# EAGLE library part TLC5940 (library monome-inc)
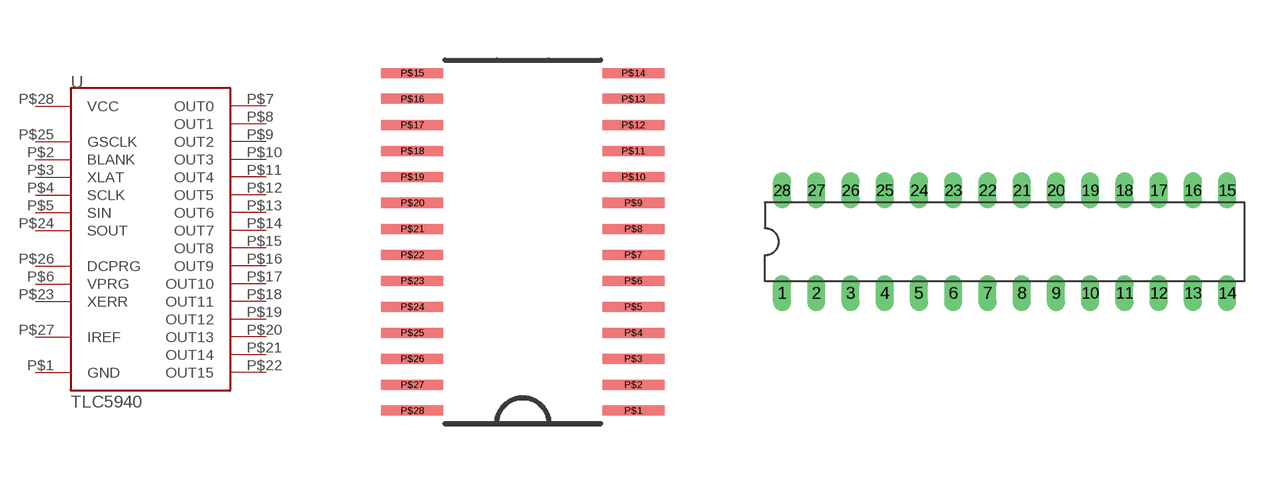
[diagram p2: symbol with the pads of PWP28; footprints PWP28, DIL28-3]

Designator prefix -

## TLC5940PWP28  [PWP28]
P$1  GND
P$2  BLANK
P$3  XLAT
P$4  SCLK
P$5  SIN
P$6  VPRG
P$7  OUT0
P$8  OUT1
P$9  OUT2
P$10  OUT3
P$11  OUT4
P$12  OUT5
P$13  OUT6
P$14  OUT7
P$15  OUT8
P$16  OUT9
P$17  OUT10
P$18  OUT11
P$19  OUT12
P$20  OUT13
P$21  OUT14
P$22  OUT15
P$23  XERR
P$24  SOUT
P$25  GSCLK
P$26  DCPRG
P$27  IREF
P$28  VCC

## TLC5940  [DIL28-3]
1  OUT1
2  OUT2
3  OUT3
4  OUT4
5  OUT5
6  OUT6
7  OUT7
8  OUT8
9  OUT9
10  OUT10
11  OUT11
12  OUT12
13  OUT13
14  OUT14
15  OUT15
16  XERR
17  SOUT
18  GSCLK
19  DCPRG
20  IREF
21  VCC
22  GND
23  BLANK
24  XLAT
25  SCLK
26  SIN
27  VPRG
28  OUT0

## Footprint PWP28 (pad centres in mm)
smd 1.55 x 0.25: P$1 2.763,-4.225; P$2 2.763,-3.575; P$3 2.763,-2.925; P$4 2.763,-2.275; P$5 2.763,-1.625; P$6 2.763,-0.975; P$7 2.763,-0.325; P$8 2.763,0.325; P$9 2.763,0.975; P$10 2.763,1.625; P$11 2.763,2.275; P$12 2.763,2.925; P$13 2.763,3.575; P$14 2.763,4.225; P$15 -2.763,4.225; P$16 -2.763,3.575; P$17 -2.763,2.925; P$18 -2.763,2.275; P$19 -2.763,1.625; P$20 -2.763,0.975; P$21 -2.763,0.325; P$22 -2.763,-0.325; P$23 -2.763,-0.975; P$24 -2.763,-1.625; P$25 -2.763,-2.275; P$26 -2.763,-2.925; P$27 -2.763,-3.575; P$28 -2.763,-4.225

## Footprint DIL28-3 (pad centres in mm)
Dual In Line Package Small
drill 0.813 long: 1 -16.51,-3.81; 2 -13.97,-3.81; 3 -11.43,-3.81; 4 -8.89,-3.81; 5 -6.35,-3.81; 6 -3.81,-3.81; 7 -1.27,-3.81; 8 1.27,-3.81; 9 3.81,-3.81; 10 6.35,-3.81; 11 8.89,-3.81; 12 11.43,-3.81; 13 13.97,-3.81; 14 16.51,-3.81; 15 16.51,3.81; 16 13.97,3.81; 17 11.43,3.81; 18 8.89,3.81; 19 6.35,3.81; 20 3.81,3.81; 21 1.27,3.81; 22 -1.27,3.81; 23 -3.81,3.81; 24 -6.35,3.81; 25 -8.89,3.81; 26 -11.43,3.81; 27 -13.97,3.81; 28 -16.51,3.81